# Altium schematic symbol library Diode_1.Schlib: 1 symbol
Pins are listed as number, name and electrical type; pins without a type are passive.

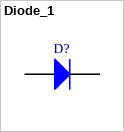
[diagram p0: symbol Diode_1]

## Diode_1
designator D?
Default Diode
pins: 1 A, 2 K